# Altium schematic symbol library ISO7721FDWR.SchLib: 1 symbol
Pins are listed as number, name and electrical type; pins without a type are passive.

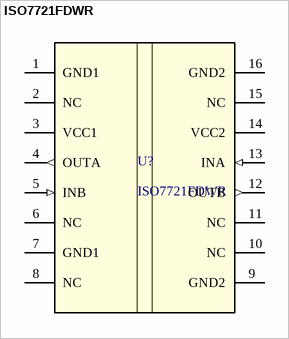
[diagram p0: symbol ISO7721FDWR]

## ISO7721FDWR
designator U?
Robust EMC, dual-channel, 1/1, reinforced digital isolator 16-SOIC -55 to 125; Manufacturer_Name: Texas Instruments; TYPE: TYPE; RefDes: RefDes; Copyright: Copyright (C) 2026 Ultra Librarian. All rights reserved.; Manufacturer_Part_Number: ISO7721FDWR; Datasheet: https://www.ti.com/lit/gpn/iso7721
footprint DW0016B_N
pins: 1 GND1 (power), 2 NC, 3 VCC1 (power), 4 OUTA (out), 5 INB (in), 6 NC, 7 GND1 (power), 8 NC, 9 GND2 (power), 10 NC, 11 NC, 12 OUTB (out), 13 INA (in), 14 VCC2 (power), 15 NC, 16 GND2 (power)